# EAGLE library part CON2X5? (library Conn - Rect - Headers,Male Pins - Jumpers)
Standard 100mil Spacing 2x5 Break-Away Header Pin configuration typically used for RS-232 connections to a DB9 connector
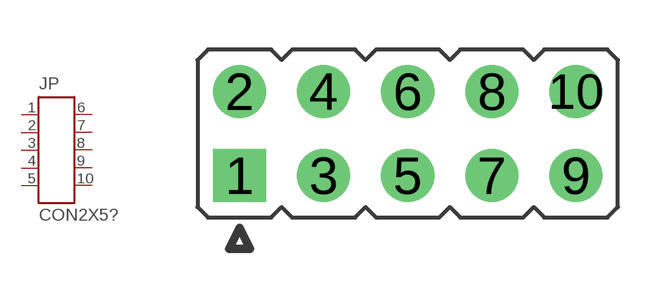
[diagram p2: symbol with the pads of 2X5; footprint 2X5]

Designator prefix JP

## CON2X5  [2X5]
1  P$1  pas
2  P$3  pas
3  P$5  pas
4  P$7  pas
5  P$9  pas
6  P$2  pas
7  P$4  pas
8  P$6  pas
9  P$8  pas
10  P$10  pas

## CON2X5A  [2X5]
1  P$1  pas
2  P$2  pas
3  P$3  pas
4  P$4  pas
5  P$5  pas
6  P$6  pas
7  P$7  pas
8  P$8  pas
9  P$9  pas
10  P$10  pas

## Footprint 2X5 (pad centres in mm)
drill 1.067 square: 1 -5.08,-1.27
drill 1.067: 2 -5.08,1.27; 3 -2.54,-1.27; 4 -2.54,1.27; 5 0,-1.27; 6 0,1.27; 7 2.54,-1.27; 8 2.54,1.27; 9 5.08,-1.27; 10 5.08,1.27